# Altium integrated library CRCW0805560RFKEA.IntLib: 1 symbol
Pins are listed as number, name and electrical type; pins without a type are passive.

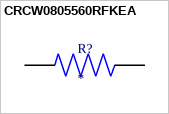
[diagram p0: symbol CRCW0805560RFKEA]

## CRCW0805560RFKEA
designator R?
Resistor; Thick Film; 560 Ohms; 0.125 W; 1%; SMT; 0805; TCR 37 ppm/DegC; Tape and Reel; MP: CRCW0805560RFKEA; MF: Vishay; Digi-Key_Part_Number: 541-560CCT-ND; SnapEDA_Link: https://www.snapeda.com/parts/CRCW0805560RFKEA/Vishay/view-part/919620/?ref=snap; Package: 2012 Vishay; Value: *; Check_prices: https://www.snapeda.com/parts/CRCW0805560RFKEA/Vishay/view-part/919620/?ref=eda; Purchase-URL: https://pricing.snapeda.com/search/part/CRCW0805560RFKEA/?ref=eda
footprint RESC2012X50N
pins: 1, 2